# EAGLE library part ILI9163C_SPI (library bt_display)
ILI9163C TFT SPI Display a-Si TFT LCD Single Chip Driver 132RGBx162 Resolution and 262K color
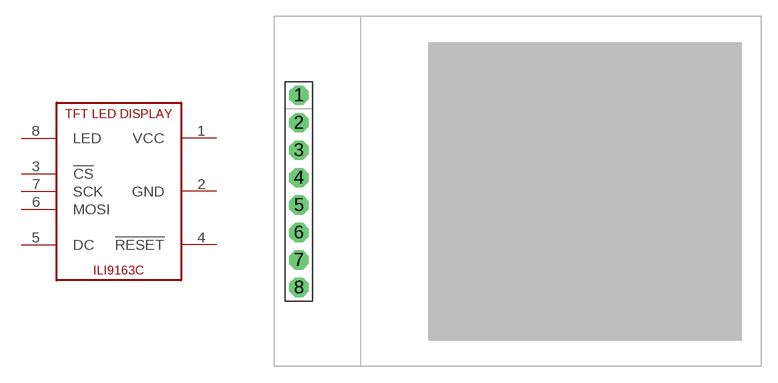
[diagram p1: symbol with the pads of TFT_LCD_1.44_SPI; footprint TFT_LCD_1.44_SPI]

Designator prefix -

## ILI9163C_SPIPTH  [TFT_LCD_1.44_SPI]
1  VCC  pwr
2  GND  sup
3  !CS
4  !RESET
5  DC
6  MOSI
7  SCK
8  LED

## Footprint TFT_LCD_1.44_SPI (pad centres in mm)
TFT LED SPI board, PTH
drill 1 pad 1.778 octagon: 1 0,8.89; 2 0,6.35; 3 0,3.81; 4 0,1.27; 5 0,-1.27; 6 0,-3.81; 7 0,-6.35; 8 0,-8.89